# Altium footprint library Audio-Streamer.PcbLib: 31 footprints (part 2 of 2)
Each footprint in its own frame and in the unit in brackets; x right, y up, seen from the top. Pads: shape width x height; smd on the part's side, far side on the other; paste and mask are expansions set on the pad; w line width, h text height; cw(c..) or ccw(c..) is an arc to the next point about the centre after c.
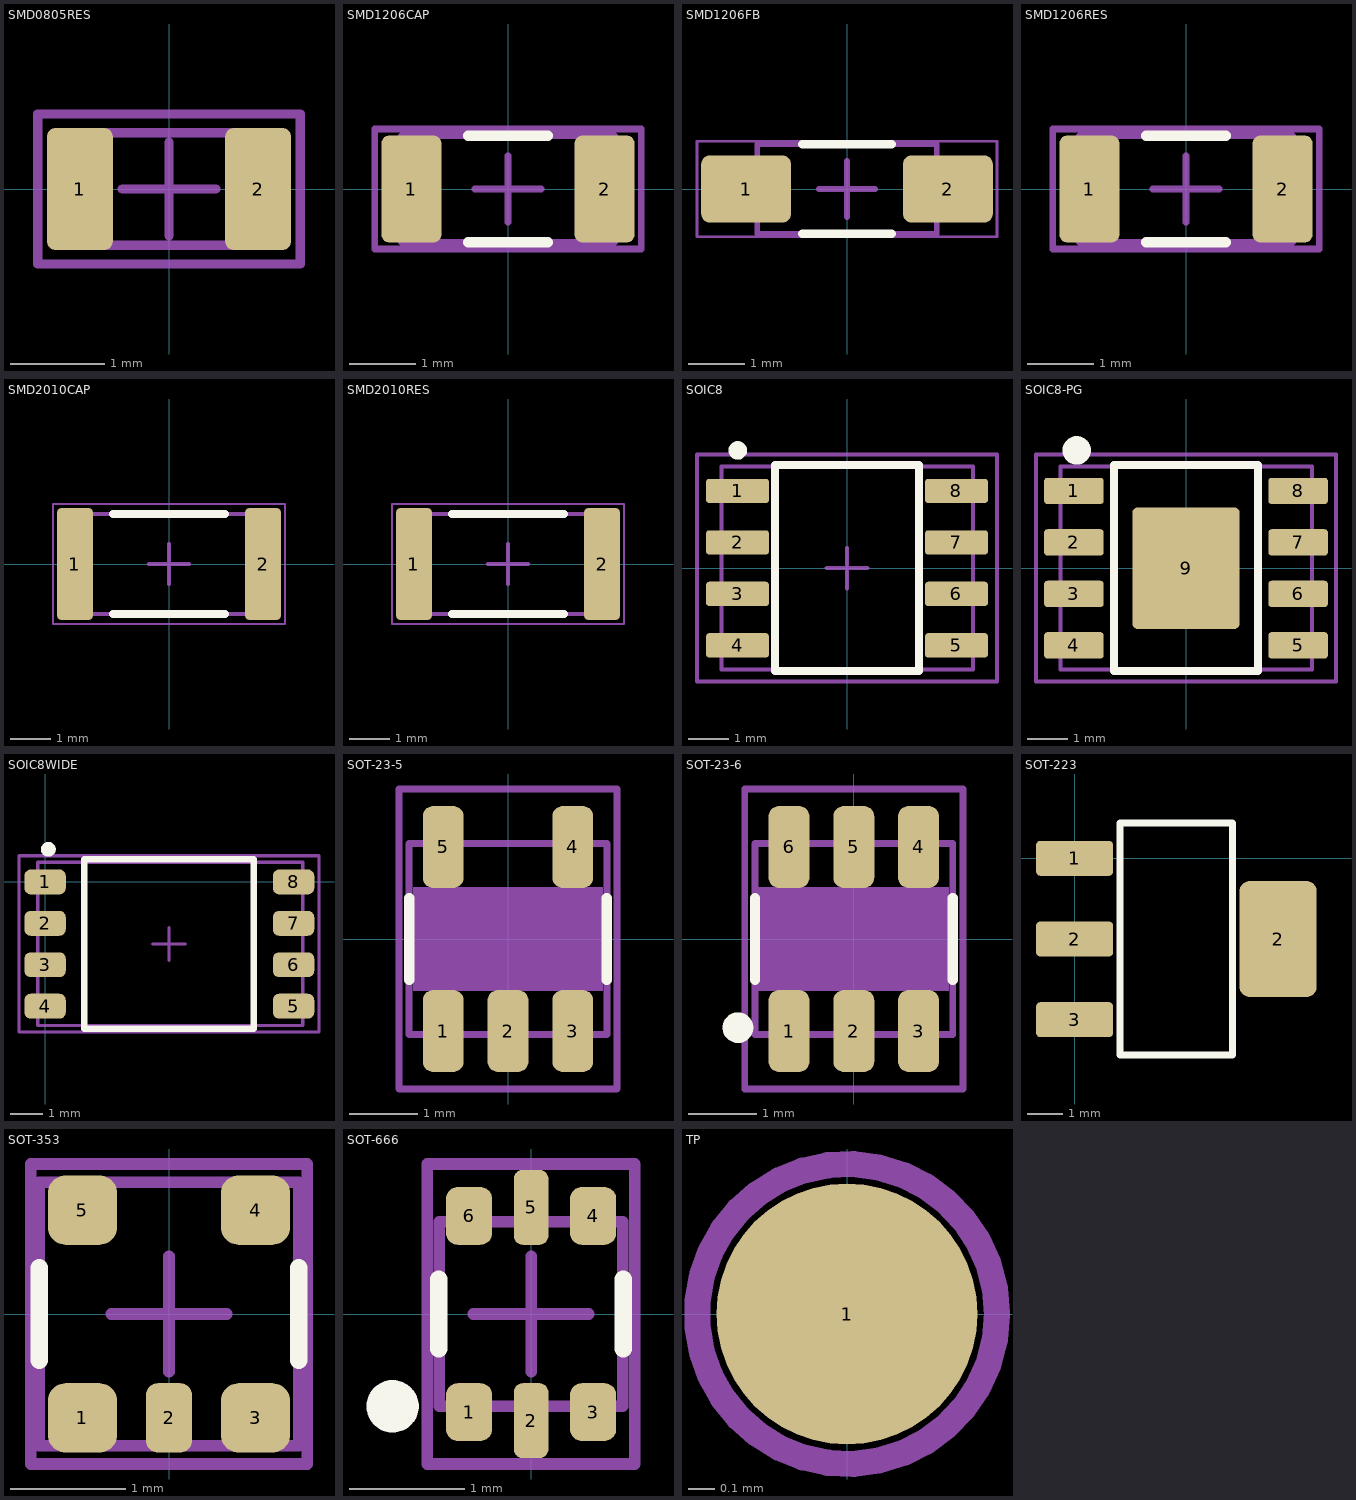
[diagram p1: the footprints below, top view; thin cyan lines are the x and y axes]

## SMD0805RES [mm]
pads (2):
  rrect25% 0.7x1.3 smd: 1(-0.95,0) 2(0.95,0)
3D Top:
  lines w0.1: -1,-0.6 -1,0.6 1,0.6 1,-0.6 -1,-0.6
Crosshair:
  lines w0.1: -0.5,0 0.5,0 ; 0,-0.5 0,0.5 ; -1.4,-0.8 1.4,-0.8 1.4,0.8 -1.4,0.8 -1.4,-0.8
3D body: height 0.45, standoff 0, extent 0.7,-0.6 1,0.6
3D body: height 0.45, standoff 0, extent -1,-0.6 -0.7,0.6
3D body: height 0.45, standoff 0, extent -0.7,-0.6 0.7,0.6

## SMD1206CAP [mm]
height 0.94
pads (2):
  rrect25% 0.9x1.6 smd: 1(-1.45,0) 2(1.45,0)
Top Overlay:
  lines w0.155: -0.6,-0.8 0.6,-0.8 ; -0.6,0.8 0.6,0.8
3D Top:
  lines w0.1: -1.6,-0.8 -1.6,0.8 1.6,0.8 1.6,-0.8 -1.6,-0.8
Crosshair:
  lines w0.1: -0.5,0 0.5,0 ; 0,-0.5 0,0.5 ; -2,-0.9 -2,0.9 2,0.9 2,-0.9 -2,-0.9
3D body: height 1, standoff 0, extent -1.2,-0.8 1.2,0.8
3D body: height 1, standoff 0, extent -1.6,-0.8 -1.2,0.8
3D body: height 1, standoff 0, extent 1.2,-0.8 1.6,0.8

## SMD1206FB [mm]
pads (2):
  rrect25% 1.6x1.2 smd: 1(-1.8,0) 2(1.8,0)
Top Overlay:
  lines w0.15: -0.8,-0.8 0.8,-0.8 ; -0.8,0.8 0.8,0.8
3D Top:
  lines w0.1: -1.6,-0.8 1.6,-0.8 1.6,0.8 -1.6,0.8 -1.6,-0.8
Crosshair:
  lines w0.05: -2.675,-0.85 2.675,-0.85 2.675,0.85 -2.675,0.85 -2.675,-0.85
  lines w0.1: -0.5,0 0.5,0 ; 0,-0.5 0,0.5
3D body "1206_782126x.stp": height 1.13, standoff 0.03, extent -1.6,-0.8 1.6,0.8

## SMD1206RES [mm]
height 0.94
pads (2):
  rrect25% 0.9x1.6 smd: 1(-1.45,0) 2(1.45,0)
Top Overlay:
  lines w0.155: -0.6,-0.8 0.6,-0.8 ; -0.6,0.8 0.6,0.8
3D Top:
  lines w0.1: -1.6,-0.8 -1.6,0.8 1.6,0.8 1.6,-0.8 -1.6,-0.8
Crosshair:
  lines w0.1: -0.5,0 0.5,0 ; 0,-0.5 0,0.5 ; -2,-0.9 -2,0.9 2,0.9 2,-0.9 -2,-0.9
3D body: height 0.55, standoff 0, extent -1.2,-0.8 1.2,0.8
3D body: height 0.55, standoff 0, extent -1.6,-0.8 -1.2,0.8
3D body: height 0.55, standoff 0, extent 1.2,-0.8 1.6,0.8

## SMD2010CAP [mm]
pads (2):
  rrect25% 0.9x2.8 smd: 1(-2.35,0) 2(2.35,0)
Top Overlay:
  lines w0.2: -1.4,-1.25 1.4,-1.25 ; -1.4,1.25 1.4,1.25
3D Top:
  lines w0.1: -2.5,-1.25 2.5,-1.25 2.5,1.25 -2.5,1.25 -2.5,-1.25
Crosshair:
  lines w0.05: -2.9,-1.5 2.9,-1.5 2.9,1.5 -2.9,1.5 -2.9,-1.5
  lines w0.1: -0.5,0 0.5,0 ; 0,-0.5 0,0.5
3D body: height 1.5, standoff 0, extent -2.5,-1.25 -2,1.25
3D body: height 1.5, standoff 0, extent -2,-1.25 2,1.25
3D body: height 1.5, standoff 0, extent 2,-1.25 2.5,1.25

## SMD2010RES [mm]
pads (2):
  rrect25% 0.9x2.8 smd: 1(-2.35,0) 2(2.35,0)
Top Overlay:
  lines w0.2: -1.4,-1.25 1.4,-1.25 ; -1.4,1.25 1.4,1.25
3D Top:
  lines w0.1: -2.5,-1.25 2.5,-1.25 2.5,1.25 -2.5,1.25 -2.5,-1.25
Crosshair:
  lines w0.05: -2.9,-1.5 2.9,-1.5 2.9,1.5 -2.9,1.5 -2.9,-1.5
  lines w0.1: -0.5,0 0.5,0 ; 0,-0.5 0,0.5
3D body: height 0.55, standoff 0, extent -2.5,-1.25 -2,1.25
3D body: height 0.55, standoff 0, extent -2,-1.25 2,1.25
3D body: height 0.55, standoff 0, extent 2,-1.25 2.5,1.25

## SOIC8 [mm] "SOIC-8"
pads (8):
  rrect25% 1.55x0.6 smd: 1(-2.7,1.905) 2(-2.7,0.635) 3(-2.7,-0.635) 4(-2.7,-1.905) 5(2.7,-1.905) 6(2.7,-0.635) 7(2.7,0.635) 8(2.7,1.905)
Top Overlay:
  circle w0.254: c-2.694,2.905 r0.1
  lines w0.2: -1.778,-2.54 1.778,-2.54 1.778,2.54 -1.778,2.54 -1.778,-2.54
3D Top:
  lines w0.1: -3.094,-2.495 -3.094,2.505 3.106,2.505 3.106,-2.495 -3.094,-2.495
Crosshair:
  lines w0.1: -0.5,0 0.5,0 ; 0,-0.5 0,0.5 ; -3.7,-2.8 -3.7,2.8 3.7,2.8 3.7,-2.8 -3.7,-2.8
3D body "STL@%STL@%STEP@%21-0041B_8.step": height 1.76, standoff 0, extent -3.099,-2.502 3.099,2.502

## SOIC8-PG [mm] "SOIC-8"
pads (9):
  rrect25% 1.47x0.65 smd: 1(-2.765,1.905) 2(-2.765,0.635) 3(-2.765,-0.635) 4(-2.765,-1.905) 5(2.765,-1.905) 6(2.765,-0.635) 7(2.765,0.635) 8(2.765,1.905)
  rrect10% 2.65x3 smd: 9(0,0)
Top Overlay:
  circle w0.5: c-2.694,2.905 r0.1
  lines w0.2: -1.778,-2.54 -1.778,2.54 1.778,2.54 1.778,-2.54 -1.778,-2.54
3D Top:
  lines w0.1: -3.094,-2.495 3.106,-2.495 3.106,2.505 -3.094,2.505 -3.094,-2.495
Crosshair:
  lines w0.1: -0.5,0 0.5,0 ; 0,-0.5 0,0.5 ; -3.7,-2.8 3.7,-2.8 3.7,2.8 -3.7,2.8 -3.7,-2.8
3D body "STL@%STL@%STEP@%21-0041B_8.step": height 1.76, standoff 0, extent -3.099,-2.502 3.099,2.502

## SOIC8WIDE [mil] "SOIC-8 208mil"
pads (8):
  rrect50% 50x30 smd: 1(0,0) 2(0,-50) 3(0,-100) 4(0,-150) 5(300,-150) 6(300,-100) 7(300,-50) 8(300,0)
Top Overlay:
  circle w10: c3.94,39.37 r3.94
  lines w7.87: 47.24,-177.17 251.97,-177.17 251.97,27.56 47.24,27.56 47.24,-177.17
3D Top:
  lines w3.94: -8.78,-173.23 -8.78,23.62 311.02,23.62 311.02,-173.23 -8.78,-173.23
Crosshair:
  lines w3.94: 129.92,-74.8 169.29,-74.8 ; 149.61,-94.49 149.61,-55.12 ; -31.5,-181.1 -31.5,31.5 330.71,31.5 330.71,-181.1 -31.5,-181.1
3D body "SOIC-8-208MIL.stp": height 78.74, standoff 0.13, extent -8.78,-173.23 311.02,23.62

## SOT-23-5 [mm] "SOT-23-5"
pads (5):
  rrect50% 0.6x1.2 smd: 1(-0.95,-1.35) 2(0,-1.35) 3(0.95,-1.35) 4(0.95,1.35) 5(-0.95,1.35)
Top Overlay:
  lines w0.152: -1.45,-0.6 -1.45,0.6 ; 1.45,-0.6 1.45,0.6
3D Top:
  lines w0.1: -1.45,-1.4 -1.45,1.4 1.45,1.4 1.45,-1.4 -1.45,-1.4
Crosshair:
  lines w0.1: -0.5,0 0.5,0 ; 0,-0.5 0,0.5 ; -1.6,-2.2 -1.6,2.2 1.6,2.2 1.6,-2.2 -1.6,-2.2
Mechanical 16:
  rectangle: -1.2,0.864 -0.7,1.524
  rectangle: 0.711,0.864 1.219,1.524
  rectangle: 0.711,-1.5 1.219,-0.85
  rectangle: -0.25,-1.5 0.254,-0.85
  rectangle: -1.2,-1.5 -0.7,-0.85
Mechanical 27:
  rectangle: -1.397,-0.762 1.397,0.762
3D body "DBV0005A.stp": height 1.2, standoff 0, extent -1.45,-1.4 1.45,1.4

## SOT-23-6 [mm] "SOT-23-6"
pads (6):
  rrect50% 0.6x1.2 smd: 1(-0.95,-1.35) 2(0,-1.35) 3(0.95,-1.35) 4(0.95,1.35) 5(0,1.35) 6(-0.95,1.35)
Top Overlay:
  circle w0.25: c-1.7,-1.3 r0.1
  lines w0.152: -1.45,-0.6 -1.45,0.6 ; 1.45,-0.6 1.45,0.6
3D Top:
  lines w0.1: -1.45,-1.4 1.45,-1.4 1.45,1.4 -1.45,1.4 -1.45,-1.4
Crosshair:
  lines w0.1: -0.5,0 0.5,0 ; 0,-0.5 0,0.5 ; -1.6,-2.2 1.6,-2.2 1.6,2.2 -1.6,2.2 -1.6,-2.2
Mechanical 16:
  rectangle: -1.2,-1.5 -0.7,-0.85
  rectangle: -0.25,-1.5 0.254,-0.85
  rectangle: 0.711,-1.5 1.219,-0.85
  rectangle: 0.711,0.864 1.219,1.524
  rectangle: -1.2,0.864 -0.7,1.524
Mechanical 27:
  rectangle: -1.397,-0.762 1.397,0.762
3D body "SOT23-6.stp": height 0.97, standoff 0, extent -1.45,-1.4 1.45,1.4

## SOT-223 [mm]
pads (4):
  rrect25% 2.2x1 smd: 1(0,0) 2(0,-2.3) 3(0,-4.6)
  rrect25% 2.2x3.3 smd: 2(5.8,-2.3)
Top Overlay:
  lines w0.2: 1.3,-5.6 4.5,-5.6 4.5,1 1.3,1 1.3,-5.6
3D body "SOT-223 v1.step": height 1.65, standoff -0.05, extent -0.445,-5.55 6.446,0.95

## SOT-353 [mm] "SOT-353"
pads (5):
  rrect50% 0.6x0.6 smd: 1(-0.75,-0.9) 3(0.75,-0.9) 4(0.75,0.9) 5(-0.75,0.9)
  rrect50% 0.4x0.6 smd: 2(0,-0.9)
Top Overlay:
  lines w0.152: -1.125,-0.4 -1.125,0.4 ; 1.125,-0.4 1.125,0.4
3D Top:
  lines w0.1: -1.125,-1.142 -1.125,1.142 1.125,1.142 1.125,-1.142 -1.125,-1.142
Crosshair:
  lines w0.1: -0.5,0 0.5,0 ; 0,-0.5 0,0.5 ; -1.2,-1.3 -1.2,1.3 1.2,1.3 1.2,-1.3 -1.2,-1.3
3D body "SOT353-1.step": height 1.05, standoff -0.05, extent -1.125,-1.142 1.125,1.142

## SOT-666 [mm] "SOT-666"
pads (6):
  rrect50% 0.4x0.5 smd: 1(-0.537,-0.85) 3(0.537,-0.85) 4(0.537,0.85) 6(-0.537,0.85)
  rrect50% 0.3x0.65 smd: 2(0,-0.925) 5(0,0.925)
Top Overlay:
  circle w0.254: c-1.2,-0.8 r0.1
  lines w0.152: -0.8,-0.3 -0.8,0.3 ; 0.8,-0.3 0.8,0.3
3D Top:
  lines w0.1: -0.795,-0.8 -0.795,0.8 0.796,0.8 0.796,-0.8 -0.795,-0.8
Crosshair:
  lines w0.1: -0.5,0 0.5,0 ; 0,-0.5 0,0.5 ; -0.9,-1.3 -0.9,1.3 0.9,1.3 0.9,-1.3 -0.9,-1.3
3D body "SOT-666.step": height 0.6, standoff 0, extent -0.795,-0.8 0.796,0.8

## TP [mm]
pads (1):
  round 1 smd: 1(0,0)
Crosshair:
  circle w0.1: c0,0 r0.575